# Altium schematic symbol library AP25X1MP-13.A1.SchLib: 1 symbol
Pins are listed as number, name and electrical type; pins without a type are passive.

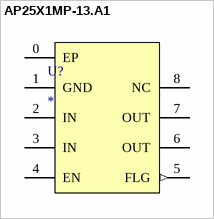
[diagram p0: symbol AP25X1MP-13.A1]

## AP25X1MP-13.A1
designator U?
pins: 0 EP, 1 GND, 2 IN, 3 IN, 4 EN, 5 FLG (out), 6 OUT, 7 OUT, 8 NC